# EAGLE library part A4988_MODULE_KXN (library kxn_Standard_module_ForTutorial)
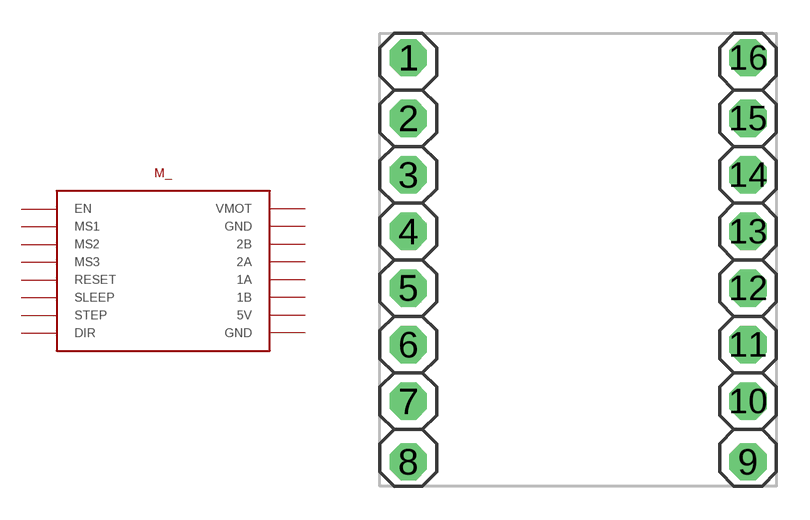
[diagram p3: symbol with the pads of MODULE_A4988; footprint MODULE_A4988]

Designator prefix M_

## A4988_MODULE_KXN_A4988_MALE_FIX  [MODULE_A4988]
1  P$1_EN
2  P$2_MS1
3  P$3_MS2
4  P$4_MS3
5  P$5_RESET
6  P$6_SLEEP
7  P$7_STEP
8  P$8_DIR
9  P$9_GND
10  P$10_5V
11  P$11_1B
12  P$12_1A
13  P$13_2A
14  P$14_2B
15  P$15_GND
16  P$16_VMOT  pwr

## Footprint MODULE_A4988 (pad centres in mm)
drill 0.95 pad 1.676 octagon: 1 -7.62,9.07; 2 -7.62,6.35; 3 -7.62,3.81; 4 -7.62,1.27; 5 -7.62,-1.27; 6 -7.62,-3.81; 7 -7.62,-6.35; 8 -7.62,-9.07; 9 7.62,-9.07; 10 7.62,-6.35; 11 7.62,-3.81; 12 7.62,-1.27; 13 7.62,1.27; 14 7.62,3.81; 15 7.62,6.35; 16 7.62,9.07